# Altium schematic symbol library Transistors.SchLib: 2 symbols
Pins are listed as number, name and electrical type; pins without a type are passive.

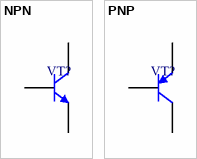
[diagram p0: symbols NPN to PNP]

## NPN
designator VT?  (value not drawn)
footprint TO92_CBE
pins: 1 C, 2 B, 3 E

## PNP
designator VT?  (value not drawn)
footprint TO92_CBE
pins: 1 C, 2 B, 3 E